# EAGLE library part IF_XCVR_LVL_1B_SN74LVC1T45DBVRG4 (library !GPLIB_ACTIVE)
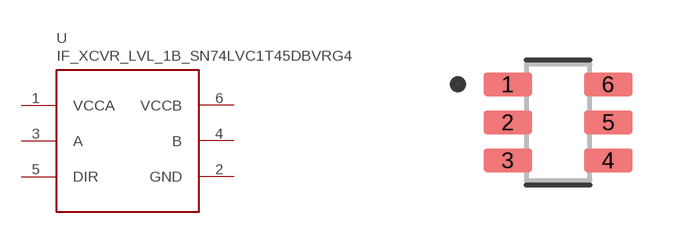
[diagram p95: symbol with the pads of SOT95P280X145-6N; footprint SOT95P280X145-6N]

Designator prefix U

## IF_XCVR_LVL_1B_SN74LVC1T45DBVRG4  [SOT95P280X145-6N]
1  VCCA  pwr
2  GND  pwr
3  A  in
4  B  out
5  DIR  in
6  VCCB  pwr

## Footprint SOT95P280X145-6N (pad centres in mm)
smd 1.21 x 0.58: 1 -1.255,0.95; 2 -1.255,0; 3 -1.255,-0.95; 4 1.255,-0.95; 5 1.255,0; 6 1.255,0.95